# Altium footprint library header-footprints.PcbLib: 1 footprints
Each footprint in its own frame and in the unit in brackets; x right, y up, seen from the top. Pads: shape width x height; smd on the part's side, far side on the other; paste and mask are expansions set on the pad; w line width, h text height; cw(c..) or ccw(c..) is an arc to the next point about the centre after c.
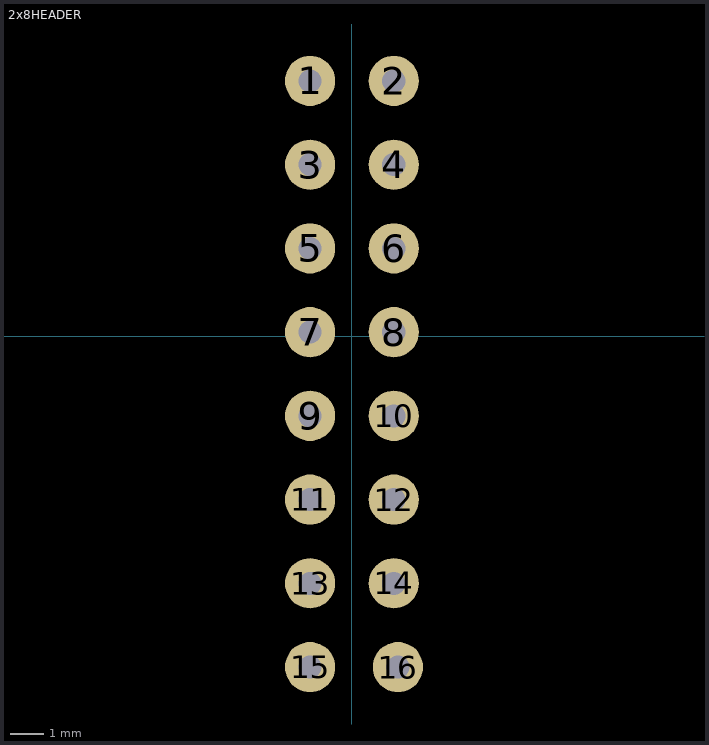
[diagram p0: the footprint, top view; thin cyan lines are the x and y axes]

## 2x8HEADER [mil] "1-826925-0"
pads (16):
  round 60 hole 27.56 square: 1(-50,305) 2(50,305) 3(-50,205) 4(50,205) 5(-50,105) 6(50,105) 7(-50,5) 8(50,5) 9(-50,-95) 10(50,-95) 11(-50,-195) 12(50,-195) 13(-50,-295) 14(50,-295) 15(-50,-395) 16(55,-395)